# Altium integrated library Linear Technology Power Management LDO Linear Regulators.IntLib: 2339 symbols (part 52 of 131)
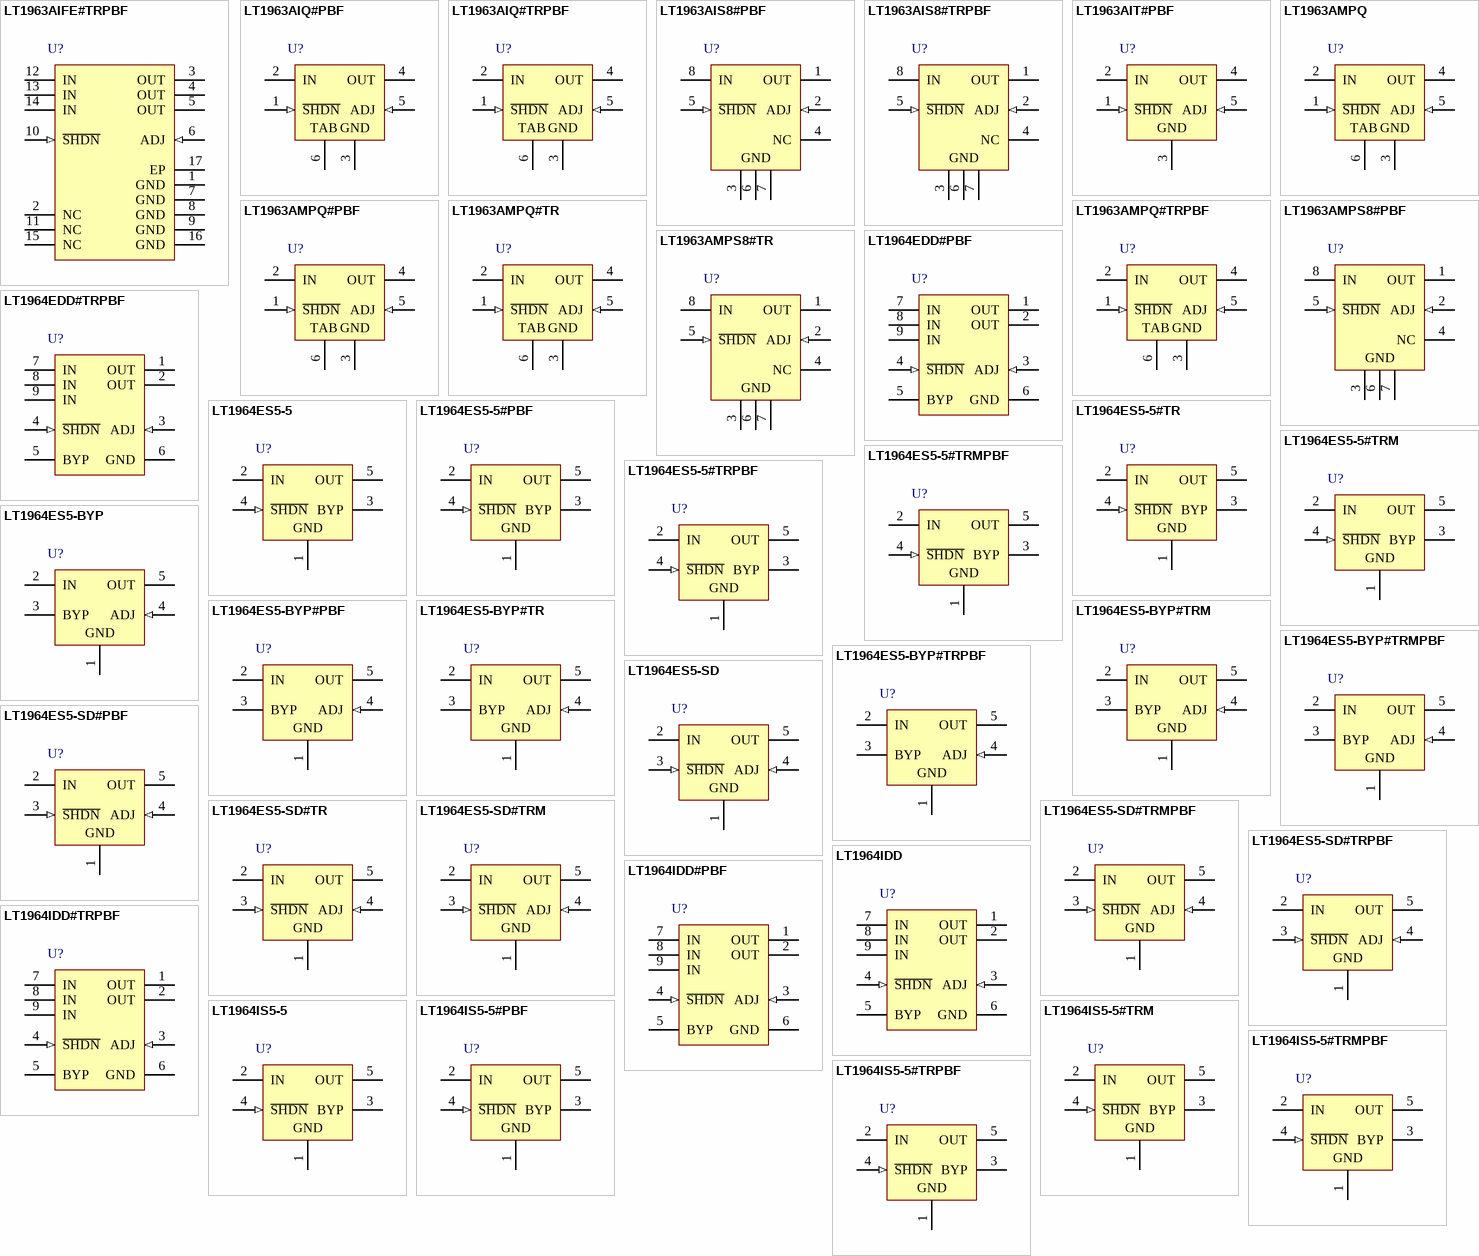
[diagram p120: symbols LT1963AIFE#TRPBF to LT1964IS5-5#TRPBF]

## LT1964ES5-5#TRMPBF
designator U?
200 mA, Low Noise, Low Dropout Negative Micropower Regulator, -1.9 to -20 V Vin, -5 V Vout, 5-pin SOT23 (S5-5), -40 to 125 degC, Pb-Free, Mini Tape and Reel; Manufacturer: Linear Technology; PartNumber: LT1964ES5-5#TRMPBF; Discrete Pass Element: no; Dropout Voltage(V): 0.34; Iout(mA): 200; Isupply(mA): 0.03; Noise(uV): 30; Number of Outputs: 1; Output Voltage: -5 V; PSRR(dB): 54; Shutdown Current(uA): 3; DatasheetVersion: Rev. B; PackageVersion: Jun-10; PackageReference: S5-5; PackageDescription: 5-Pin Plastic TSOT-23, Body 1.63 x 2.90 mm, Pitch 0.95 mm; Supplier 1: Digi-Key; Supplier Part Number 1: LT1964ES5-5#TRMPBFTR-ND; Supplier 2: Digi-Key; Supplier Part Number 2: LT1964ES5-5#TRMPBFCT-ND; Supplier 3: Digi-Key; Supplier Part Number 3: LT1964ES5-5#TRMPBFDKR-ND; Supplier 4: Farnell; Supplier Part Number 4: 1663814RL; Supplier 5: Farnell; Supplier Part Number 5: 1663814; Supplier 6: Newark; Supplier Part Number 6: 59M8319; Supplier 7: Newark; Supplier Part Number 7: 57M7590; Packing: Mini Tape and Reel; RoHS: TRUE; Vin Max(V): -1.9; Vin Min(V): -20; Mounting Technology: Surface Mount; Code_JEDEC: MO-193; ComponentLink1Description: Manufacturer URL; ComponentLink1URL: http://www.linear.com/; ComponentLink2Description: Datasheet; ComponentLink2URL: http://cds.linear.com/docs/en/datasheet/1964fb.pdf; ComponentLink3Description: Package Specification; ComponentLink3URL: http://cds.linear.com/docs/en/packaging/SOT_5_05-08-1635.pdf
footprint LT-S5-5-TSOT-23_N (SOT23, 5-Leads, Body 2.90x1.63mm, Pitch 0.95mm, IPC Medium Density)
footprint LT-S5-5-TSOT-23_L (SOT23, 5-Leads, Body 2.90x1.63mm, Pitch 0.95mm, IPC High Density)
footprint LT-S5-5-TSOT-23_M (SOT23, 5-Leads, Body 2.90x1.63mm, Pitch 0.95mm, IPC Low Density)
pins: 1 GND (power) "Ground.", 2 IN (power) "Power is Supplied to the Device Through the Input Pin. A bypass capacitor is required on this pin if the device is more than six inches away from the main input filter capacitor. In general, the output impedance of a battery (See Datasheet)", 3 BYP "The BYP Pin is used to Bypass the Reference of the LT1964 to Achieve Low Noise Performance from the Regulator. A small capacitor from the output to this pin will bypass the reference to lower the output voltage noise. A (See Datasheet)", 4 ~{SHDN} (in) "The S\H\D\N\ Pin is used to put the LT1964 into a Low Power Shutdown State. The S\H\D\N\ pin is referenced to the GND pin for regulator control, allowing the LT1964 to be driven by either positive or negative logic. The (See Datasheet)", 5 OUT (power) "The Output Supplies Power to the Load. A minimum output capacitor of 1uF is required to prevent oscillations. Larger output capacitors will be required for applications with large transient loads to limit peak voltage (See Datasheet)"

## LT1964ES5-5#TRPBF
designator U?
200 mA, Low Noise, Low Dropout Negative Micropower Regulator, -1.9 to -20 V Vin, -5 V Vout, 5-pin SOT23 (S5-5), -40 to 125 degC, Pb-Free, Tape and Reel; Manufacturer: Linear Technology; PartNumber: LT1964ES5-5#TRPBF; Discrete Pass Element: no; Dropout Voltage(V): 0.34; Iout(mA): 200; Isupply(mA): 0.03; Noise(uV): 30; Number of Outputs: 1; Output Voltage: -5 V; PSRR(dB): 54; Shutdown Current(uA): 3; DatasheetVersion: Rev. B; PackageVersion: Jun-10; PackageReference: S5-5; PackageDescription: 5-Pin Plastic TSOT-23, Body 1.63 x 2.90 mm, Pitch 0.95 mm; Supplier 1: Digi-Key; Supplier Part Number 1: LT1964ES5-5#TRPBF-ND; Supplier 2: Newark; Supplier Part Number 2: 57M7591; Packing: Tape and Reel; RoHS: TRUE; Vin Max(V): -1.9; Vin Min(V): -20; Mounting Technology: Surface Mount; Code_JEDEC: MO-193; ComponentLink1Description: Manufacturer URL; ComponentLink1URL: http://www.linear.com/; ComponentLink2Description: Datasheet; ComponentLink2URL: http://cds.linear.com/docs/en/datasheet/1964fb.pdf; ComponentLink3Description: Package Specification; ComponentLink3URL: http://cds.linear.com/docs/en/packaging/SOT_5_05-08-1635.pdf
footprint LT-S5-5-TSOT-23_N (SOT23, 5-Leads, Body 2.90x1.63mm, Pitch 0.95mm, IPC Medium Density)
footprint LT-S5-5-TSOT-23_L (SOT23, 5-Leads, Body 2.90x1.63mm, Pitch 0.95mm, IPC High Density)
footprint LT-S5-5-TSOT-23_M (SOT23, 5-Leads, Body 2.90x1.63mm, Pitch 0.95mm, IPC Low Density)
pins: 1 GND (power) "Ground.", 2 IN (power) "Power is Supplied to the Device Through the Input Pin. A bypass capacitor is required on this pin if the device is more than six inches away from the main input filter capacitor. In general, the output impedance of a battery (See Datasheet)", 3 BYP "The BYP Pin is used to Bypass the Reference of the LT1964 to Achieve Low Noise Performance from the Regulator. A small capacitor from the output to this pin will bypass the reference to lower the output voltage noise. A (See Datasheet)", 4 ~{SHDN} (in) "The S\H\D\N\ Pin is used to put the LT1964 into a Low Power Shutdown State. The S\H\D\N\ pin is referenced to the GND pin for regulator control, allowing the LT1964 to be driven by either positive or negative logic. The (See Datasheet)", 5 OUT (power) "The Output Supplies Power to the Load. A minimum output capacitor of 1uF is required to prevent oscillations. Larger output capacitors will be required for applications with large transient loads to limit peak voltage (See Datasheet)"

## LT1964ES5-BYP
designator U?
200 mA, Low Noise, Low Dropout Negative Micropower Regulator, -1.9 to -20 V Vin, Adjustable Vout, 5-pin SOT23 (S5-5), -40 to 125 degC; Manufacturer: Linear Technology; PartNumber: LT1964ES5-BYP; Discrete Pass Element: no; Dropout Voltage(V): 0.34; Iout(mA): 200; Isupply(mA): 0.03; Noise(uV): 30; Number of Outputs: 1; Output Voltage: Adj; PSRR(dB): 54; Shutdown Current(uA): 3; DatasheetVersion: Rev. B; PackageVersion: Jun-10; PackageReference: S5-5; PackageDescription: 5-Pin Plastic TSOT-23, Body 1.63 x 2.90 mm, Pitch 0.95 mm; RoHS: FALSE; Vin Max(V): -1.9; Vin Min(V): -20; Mounting Technology: Surface Mount; Code_JEDEC: MO-193; ComponentLink1Description: Manufacturer URL; ComponentLink1URL: http://www.linear.com/; ComponentLink2Description: Datasheet; ComponentLink2URL: http://cds.linear.com/docs/en/datasheet/1964fb.pdf; ComponentLink3Description: Package Specification; ComponentLink3URL: http://cds.linear.com/docs/en/packaging/SOT_5_05-08-1635.pdf
footprint LT-S5-5-TSOT-23_N (SOT23, 5-Leads, Body 2.90x1.63mm, Pitch 0.95mm, IPC Medium Density)
footprint LT-S5-5-TSOT-23_L (SOT23, 5-Leads, Body 2.90x1.63mm, Pitch 0.95mm, IPC High Density)
footprint LT-S5-5-TSOT-23_M (SOT23, 5-Leads, Body 2.90x1.63mm, Pitch 0.95mm, IPC Low Density)
pins: 1 GND (power) "Ground.", 2 IN (power) "Power is Supplied to the Device Through the Input Pin. A bypass capacitor is required on this pin if the device is more than six inches away from the main input filter capacitor. In general, the output impedance of a battery (See Datasheet)", 3 BYP "The BYP Pin is used to Bypass the Reference of the LT1964 to Achieve Low Noise Performance from the Regulator. A small capacitor from the output to this pin will bypass the reference to lower the output voltage noise. A (See Datasheet)", 4 ADJ (in) "For the Adjustable LT1964, this is the Input to the Error Amplifier. The ADJ pin has a bias current of 30nA that flows out of the pin. The ADJ pin voltage is -1.22V referenced to ground, and the output voltage range is -1.(See Datasheet)", 5 OUT (power) "The Output Supplies Power to the Load. A minimum output capacitor of 1uF is required to prevent oscillations. Larger output capacitors will be required for applications with large transient loads to limit peak voltage (See Datasheet)"

## LT1964ES5-BYP#PBF
designator U?
200 mA, Low Noise, Low Dropout Negative Micropower Regulator, -1.9 to -20 V Vin, Adjustable Vout, 5-pin SOT23 (S5-5), -40 to 125 degC, Pb-Free; Manufacturer: Linear Technology; PartNumber: LT1964ES5-BYP#PBF; Discrete Pass Element: no; Dropout Voltage(V): 0.34; Iout(mA): 200; Isupply(mA): 0.03; Noise(uV): 30; Number of Outputs: 1; Output Voltage: Adj; PSRR(dB): 54; Shutdown Current(uA): 3; DatasheetVersion: Rev. B; PackageVersion: Jun-10; PackageReference: S5-5; PackageDescription: 5-Pin Plastic TSOT-23, Body 1.63 x 2.90 mm, Pitch 0.95 mm; Supplier 1: Newark; Supplier Part Number 1: 05R9561; RoHS: TRUE; Vin Max(V): -1.9; Vin Min(V): -20; Mounting Technology: Surface Mount; Code_JEDEC: MO-193; ComponentLink1Description: Manufacturer URL; ComponentLink1URL: http://www.linear.com/; ComponentLink2Description: Datasheet; ComponentLink2URL: http://cds.linear.com/docs/en/datasheet/1964fb.pdf; ComponentLink3Description: Package Specification; ComponentLink3URL: http://cds.linear.com/docs/en/packaging/SOT_5_05-08-1635.pdf
footprint LT-S5-5-TSOT-23_N (SOT23, 5-Leads, Body 2.90x1.63mm, Pitch 0.95mm, IPC Medium Density)
footprint LT-S5-5-TSOT-23_L (SOT23, 5-Leads, Body 2.90x1.63mm, Pitch 0.95mm, IPC High Density)
footprint LT-S5-5-TSOT-23_M (SOT23, 5-Leads, Body 2.90x1.63mm, Pitch 0.95mm, IPC Low Density)
pins: 1 GND (power) "Ground.", 2 IN (power) "Power is Supplied to the Device Through the Input Pin. A bypass capacitor is required on this pin if the device is more than six inches away from the main input filter capacitor. In general, the output impedance of a battery (See Datasheet)", 3 BYP "The BYP Pin is used to Bypass the Reference of the LT1964 to Achieve Low Noise Performance from the Regulator. A small capacitor from the output to this pin will bypass the reference to lower the output voltage noise. A (See Datasheet)", 4 ADJ (in) "For the Adjustable LT1964, this is the Input to the Error Amplifier. The ADJ pin has a bias current of 30nA that flows out of the pin. The ADJ pin voltage is -1.22V referenced to ground, and the output voltage range is -1.(See Datasheet)", 5 OUT (power) "The Output Supplies Power to the Load. A minimum output capacitor of 1uF is required to prevent oscillations. Larger output capacitors will be required for applications with large transient loads to limit peak voltage (See Datasheet)"

## LT1964ES5-BYP#TR
designator U?
200 mA, Low Noise, Low Dropout Negative Micropower Regulator, -1.9 to -20 V Vin, Adjustable Vout, 5-pin SOT23 (S5-5), -40 to 125 degC, Tape and Reel; Manufacturer: Linear Technology; PartNumber: LT1964ES5-BYP#TR; Discrete Pass Element: no; Dropout Voltage(V): 0.34; Iout(mA): 200; Isupply(mA): 0.03; Noise(uV): 30; Number of Outputs: 1; Output Voltage: Adj; PSRR(dB): 54; Shutdown Current(uA): 3; DatasheetVersion: Rev. B; PackageVersion: Jun-10; PackageReference: S5-5; PackageDescription: 5-Pin Plastic TSOT-23, Body 1.63 x 2.90 mm, Pitch 0.95 mm; Supplier 1: Digi-Key; Supplier Part Number 1: LT1964ES5-BYPTR-ND; Supplier 2: Newark; Supplier Part Number 2: 57M7581; Packing: Tape and Reel; RoHS: FALSE; Vin Max(V): -1.9; Vin Min(V): -20; Mounting Technology: Surface Mount; Code_JEDEC: MO-193; ComponentLink1Description: Manufacturer URL; ComponentLink1URL: http://www.linear.com/; ComponentLink2Description: Datasheet; ComponentLink2URL: http://cds.linear.com/docs/en/datasheet/1964fb.pdf; ComponentLink3Description: Package Specification; ComponentLink3URL: http://cds.linear.com/docs/en/packaging/SOT_5_05-08-1635.pdf
footprint LT-S5-5-TSOT-23_N (SOT23, 5-Leads, Body 2.90x1.63mm, Pitch 0.95mm, IPC Medium Density)
footprint LT-S5-5-TSOT-23_L (SOT23, 5-Leads, Body 2.90x1.63mm, Pitch 0.95mm, IPC High Density)
footprint LT-S5-5-TSOT-23_M (SOT23, 5-Leads, Body 2.90x1.63mm, Pitch 0.95mm, IPC Low Density)
pins: 1 GND (power) "Ground.", 2 IN (power) "Power is Supplied to the Device Through the Input Pin. A bypass capacitor is required on this pin if the device is more than six inches away from the main input filter capacitor. In general, the output impedance of a battery (See Datasheet)", 3 BYP "The BYP Pin is used to Bypass the Reference of the LT1964 to Achieve Low Noise Performance from the Regulator. A small capacitor from the output to this pin will bypass the reference to lower the output voltage noise. A (See Datasheet)", 4 ADJ (in) "For the Adjustable LT1964, this is the Input to the Error Amplifier. The ADJ pin has a bias current of 30nA that flows out of the pin. The ADJ pin voltage is -1.22V referenced to ground, and the output voltage range is -1.(See Datasheet)", 5 OUT (power) "The Output Supplies Power to the Load. A minimum output capacitor of 1uF is required to prevent oscillations. Larger output capacitors will be required for applications with large transient loads to limit peak voltage (See Datasheet)"

## LT1964ES5-BYP#TRM
designator U?
200 mA, Low Noise, Low Dropout Negative Micropower Regulator, -1.9 to -20 V Vin, Adjustable Vout, 5-pin SOT23 (S5-5), -40 to 125 degC, Mini Tape and Reel; Manufacturer: Linear Technology; PartNumber: LT1964ES5-BYP#TRM; Discrete Pass Element: no; Dropout Voltage(V): 0.34; Iout(mA): 200; Isupply(mA): 0.03; Noise(uV): 30; Number of Outputs: 1; Output Voltage: Adj; PSRR(dB): 54; Shutdown Current(uA): 3; Vout Max(V): -1.22; DatasheetVersion: Rev. B; PackageVersion: Jun-10; PackageReference: S5-5; PackageDescription: 5-Pin Plastic TSOT-23, Body 1.63 x 2.90 mm, Pitch 0.95 mm; Supplier 1: Digi-Key; Supplier Part Number 1: LT1964ES5-BYP#TRMTR-ND; Supplier 2: Digi-Key; Supplier Part Number 2: LT1964ES5-BYP#TRMCT-ND; Supplier 3: Digi-Key; Supplier Part Number 3: LT1964ES5-BYP#TRMDKR-ND; Supplier 4: Newark; Supplier Part Number 4: 75M4673; Packing: Mini Tape and Reel; RoHS: FALSE; Vin Max(V): -1.9; Vin Min(V): -20; Vout Min(V): -20; Mounting Technology: Surface Mount; Code_JEDEC: MO-193; ComponentLink1Description: Manufacturer URL; ComponentLink1URL: http://www.linear.com/; ComponentLink2Description: Datasheet; ComponentLink2URL: http://cds.linear.com/docs/en/datasheet/1964fb.pdf; ComponentLink3Description: Package Specification; ComponentLink3URL: http://cds.linear.com/docs/en/packaging/SOT_5_05-08-1635.pdf
footprint LT-S5-5-TSOT-23_N (SOT23, 5-Leads, Body 2.90x1.63mm, Pitch 0.95mm, IPC Medium Density)
footprint LT-S5-5-TSOT-23_L (SOT23, 5-Leads, Body 2.90x1.63mm, Pitch 0.95mm, IPC High Density)
footprint LT-S5-5-TSOT-23_M (SOT23, 5-Leads, Body 2.90x1.63mm, Pitch 0.95mm, IPC Low Density)
pins: 1 GND (power) "Ground.", 2 IN (power) "Power is Supplied to the Device Through the Input Pin. A bypass capacitor is required on this pin if the device is more than six inches away from the main input filter capacitor. In general, the output impedance of a battery (See Datasheet)", 3 BYP "The BYP Pin is used to Bypass the Reference of the LT1964 to Achieve Low Noise Performance from the Regulator. A small capacitor from the output to this pin will bypass the reference to lower the output voltage noise. A (See Datasheet)", 4 ADJ (in) "For the Adjustable LT1964, this is the Input to the Error Amplifier. The ADJ pin has a bias current of 30nA that flows out of the pin. The ADJ pin voltage is -1.22V referenced to ground, and the output voltage range is -1.(See Datasheet)", 5 OUT (power) "The Output Supplies Power to the Load. A minimum output capacitor of 1uF is required to prevent oscillations. Larger output capacitors will be required for applications with large transient loads to limit peak voltage (See Datasheet)"

## LT1964ES5-BYP#TRMPBF
designator U?
200 mA, Low Noise, Low Dropout Negative Micropower Regulator, -1.9 to -20 V Vin, Adjustable Vout, 5-pin SOT23 (S5-5), -40 to 125 degC, Pb-Free, Mini Tape and Reel; Manufacturer: Linear Technology; PartNumber: LT1964ES5-BYP#TRMPBF; Discrete Pass Element: no; Dropout Voltage(V): 0.34; Iout(mA): 200; Isupply(mA): 0.03; Noise(uV): 30; Number of Outputs: 1; Output Voltage: Adj; PSRR(dB): 54; Shutdown Current(uA): 3; Vout Max(V): -1.22; DatasheetVersion: Rev. B; PackageVersion: Jun-10; PackageReference: S5-5; PackageDescription: 5-Pin Plastic TSOT-23, Body 1.63 x 2.90 mm, Pitch 0.95 mm; Supplier 1: Digi-Key; Supplier Part Number 1: LT1964ES5-BYP#TRMPBFTR-ND; Supplier 2: Digi-Key; Supplier Part Number 2: LT1964ES5-BYP#TRMPBFCT-ND; Supplier 3: Digi-Key; Supplier Part Number 3: LT1964ES5-BYP#TRMPBFDKR-ND; Supplier 4: Farnell; Supplier Part Number 4: 1663815; Supplier 5: Farnell; Supplier Part Number 5: 1663815RL; Supplier 6: Newark; Supplier Part Number 6: 57M7582; Packing: Mini Tape and Reel; RoHS: TRUE; Vin Max(V): -1.9; Vin Min(V): -20; Vout Min(V): -20; Mounting Technology: Surface Mount; Code_JEDEC: MO-193; ComponentLink1Description: Manufacturer URL; ComponentLink1URL: http://www.linear.com/; ComponentLink2Description: Datasheet; ComponentLink2URL: http://cds.linear.com/docs/en/datasheet/1964fb.pdf; ComponentLink3Description: Package Specification; ComponentLink3URL: http://cds.linear.com/docs/en/packaging/SOT_5_05-08-1635.pdf
footprint LT-S5-5-TSOT-23_N (SOT23, 5-Leads, Body 2.90x1.63mm, Pitch 0.95mm, IPC Medium Density)
footprint LT-S5-5-TSOT-23_L (SOT23, 5-Leads, Body 2.90x1.63mm, Pitch 0.95mm, IPC High Density)
footprint LT-S5-5-TSOT-23_M (SOT23, 5-Leads, Body 2.90x1.63mm, Pitch 0.95mm, IPC Low Density)
pins: 1 GND (power) "Ground.", 2 IN (power) "Power is Supplied to the Device Through the Input Pin. A bypass capacitor is required on this pin if the device is more than six inches away from the main input filter capacitor. In general, the output impedance of a battery (See Datasheet)", 3 BYP "The BYP Pin is used to Bypass the Reference of the LT1964 to Achieve Low Noise Performance from the Regulator. A small capacitor from the output to this pin will bypass the reference to lower the output voltage noise. A (See Datasheet)", 4 ADJ (in) "For the Adjustable LT1964, this is the Input to the Error Amplifier. The ADJ pin has a bias current of 30nA that flows out of the pin. The ADJ pin voltage is -1.22V referenced to ground, and the output voltage range is -1.(See Datasheet)", 5 OUT (power) "The Output Supplies Power to the Load. A minimum output capacitor of 1uF is required to prevent oscillations. Larger output capacitors will be required for applications with large transient loads to limit peak voltage (See Datasheet)"

## LT1964ES5-BYP#TRPBF
designator U?
200 mA, Low Noise, Low Dropout Negative Micropower Regulator, -1.9 to -20 V Vin, Adjustable Vout, 5-pin SOT23 (S5-5), -40 to 125 degC, Pb-Free, Tape and Reel; Manufacturer: Linear Technology; PartNumber: LT1964ES5-BYP#TRPBF; Discrete Pass Element: no; Dropout Voltage(V): 0.34; Iout(mA): 200; Isupply(mA): 0.03; Noise(uV): 30; Number of Outputs: 1; Output Voltage: Adj; PSRR(dB): 54; Shutdown Current(uA): 3; DatasheetVersion: Rev. B; PackageVersion: Jun-10; PackageReference: S5-5; PackageDescription: 5-Pin Plastic TSOT-23, Body 1.63 x 2.90 mm, Pitch 0.95 mm; Supplier 1: Digi-Key; Supplier Part Number 1: LT1964ES5-BYP#TRPBF-ND; Supplier 2: Newark; Supplier Part Number 2: 57M7583; Packing: Tape and Reel; RoHS: TRUE; Vin Max(V): -1.9; Vin Min(V): -20; Mounting Technology: Surface Mount; Code_JEDEC: MO-193; ComponentLink1Description: Manufacturer URL; ComponentLink1URL: http://www.linear.com/; ComponentLink2Description: Datasheet; ComponentLink2URL: http://cds.linear.com/docs/en/datasheet/1964fb.pdf; ComponentLink3Description: Package Specification; ComponentLink3URL: http://cds.linear.com/docs/en/packaging/SOT_5_05-08-1635.pdf
footprint LT-S5-5-TSOT-23_N (SOT23, 5-Leads, Body 2.90x1.63mm, Pitch 0.95mm, IPC Medium Density)
footprint LT-S5-5-TSOT-23_L (SOT23, 5-Leads, Body 2.90x1.63mm, Pitch 0.95mm, IPC High Density)
footprint LT-S5-5-TSOT-23_M (SOT23, 5-Leads, Body 2.90x1.63mm, Pitch 0.95mm, IPC Low Density)
pins: 1 GND (power) "Ground.", 2 IN (power) "Power is Supplied to the Device Through the Input Pin. A bypass capacitor is required on this pin if the device is more than six inches away from the main input filter capacitor. In general, the output impedance of a battery (See Datasheet)", 3 BYP "The BYP Pin is used to Bypass the Reference of the LT1964 to Achieve Low Noise Performance from the Regulator. A small capacitor from the output to this pin will bypass the reference to lower the output voltage noise. A (See Datasheet)", 4 ADJ (in) "For the Adjustable LT1964, this is the Input to the Error Amplifier. The ADJ pin has a bias current of 30nA that flows out of the pin. The ADJ pin voltage is -1.22V referenced to ground, and the output voltage range is -1.(See Datasheet)", 5 OUT (power) "The Output Supplies Power to the Load. A minimum output capacitor of 1uF is required to prevent oscillations. Larger output capacitors will be required for applications with large transient loads to limit peak voltage (See Datasheet)"

## LT1964ES5-SD
designator U?
200 mA, Low Noise, Low Dropout Negative Micropower Regulator, -1.9 to -20 V Vin, Adjustable Vout, 5-pin SOT23 (S5-5), -40 to 125 degC; Manufacturer: Linear Technology; PartNumber: LT1964ES5-SD; Discrete Pass Element: no; Dropout Voltage(V): 0.34; Iout(mA): 200; Isupply(mA): 0.03; Noise(uV): 30; Number of Outputs: 1; Output Voltage: Adj; PSRR(dB): 54; Shutdown Current(uA): 3; DatasheetVersion: Rev. B; PackageVersion: Jun-10; PackageReference: S5-5; PackageDescription: 5-Pin Plastic TSOT-23, Body 1.63 x 2.90 mm, Pitch 0.95 mm; Supplier 1: Newark; Supplier Part Number 1: 68W9967; RoHS: FALSE; Vin Max(V): -1.9; Vin Min(V): -20; Mounting Technology: Surface Mount; Code_JEDEC: MO-193; ComponentLink1Description: Manufacturer URL; ComponentLink1URL: http://www.linear.com/; ComponentLink2Description: Datasheet; ComponentLink2URL: http://cds.linear.com/docs/en/datasheet/1964fb.pdf; ComponentLink3Description: Package Specification; ComponentLink3URL: http://cds.linear.com/docs/en/packaging/SOT_5_05-08-1635.pdf
footprint LT-S5-5-TSOT-23_N (SOT23, 5-Leads, Body 2.90x1.63mm, Pitch 0.95mm, IPC Medium Density)
footprint LT-S5-5-TSOT-23_L (SOT23, 5-Leads, Body 2.90x1.63mm, Pitch 0.95mm, IPC High Density)
footprint LT-S5-5-TSOT-23_M (SOT23, 5-Leads, Body 2.90x1.63mm, Pitch 0.95mm, IPC Low Density)
pins: 1 GND (power) "Ground.", 2 IN (power) "Power is Supplied to the Device Through the Input Pin. A bypass capacitor is required on this pin if the device is more than six inches away from the main input filter capacitor. In general, the output impedance of a battery (See Datasheet)", 3 ~{SHDN} (in) "The S\H\D\N\ Pin is used to put the LT1964 into a Low Power Shutdown State. The S\H\D\N\ pin is referenced to the GND pin for regulator control, allowing the LT1964 to be driven by either positive or negative logic. The (See Datasheet)", 4 ADJ (in) "For the Adjustable LT1964, this is the Input to the Error Amplifier. The ADJ pin has a bias current of 30nA that flows out of the pin. The ADJ pin voltage is -1.22V referenced to ground, and the output voltage range is -1.(See Datasheet)", 5 OUT (power) "The Output Supplies Power to the Load. A minimum output capacitor of 1uF is required to prevent oscillations. Larger output capacitors will be required for applications with large transient loads to limit peak voltage (See Datasheet)"

## LT1964ES5-SD#PBF
designator U?
200 mA, Low Noise, Low Dropout Negative Micropower Regulator, -1.6 to -20 V Vin, Adjustable Vout, 5-pin SOT23 (S5-5), -40 to 125 degC, Pb-Free; Manufacturer: Linear Technology; PartNumber: LT1964ES5-SD#PBF; Discrete Pass Element: no; Dropout Voltage(V): 0.34; Iout(mA): 200; Isupply(mA): 0.03; Noise(uV): 30; Number of Outputs: 1; Output Voltage: Adj; PSRR(dB): 54; Shutdown Current(uA): 3; Vout Max(V): -1.22; DatasheetVersion: Rev. B; PackageVersion: Jun-10; PackageReference: S5-5; PackageDescription: 5-Pin Plastic TSOT-23, Body 1.63 x 2.90 mm, Pitch 0.95 mm; Supplier 1: Farnell; Supplier Part Number 1: 2308192; Supplier 2: Newark; Supplier Part Number 2: 78T3771; RoHS: TRUE; Vin Max(V): -1.6; Vin Min(V): -20; Vout Min(V): -20; Mounting Technology: Surface Mount; Code_JEDEC: MO-193; ComponentLink1Description: Manufacturer URL; ComponentLink1URL: http://www.linear.com/; ComponentLink2Description: Datasheet; ComponentLink2URL: http://cds.linear.com/docs/en/datasheet/1964fb.pdf; ComponentLink3Description: Package Specification; ComponentLink3URL: http://cds.linear.com/docs/en/packaging/SOT_5_05-08-1635.pdf
footprint LT-S5-5-TSOT-23_N (SOT23, 5-Leads, Body 2.90x1.63mm, Pitch 0.95mm, IPC Medium Density)
footprint LT-S5-5-TSOT-23_L (SOT23, 5-Leads, Body 2.90x1.63mm, Pitch 0.95mm, IPC High Density)
footprint LT-S5-5-TSOT-23_M (SOT23, 5-Leads, Body 2.90x1.63mm, Pitch 0.95mm, IPC Low Density)
pins: 1 GND (power) "Ground.", 2 IN (power) "Power is Supplied to the Device Through the Input Pin. A bypass capacitor is required on this pin if the device is more than six inches away from the main input filter capacitor. In general, the output impedance of a battery (See Datasheet)", 3 ~{SHDN} (in) "The S\H\D\N\ Pin is used to put the LT1964 into a Low Power Shutdown State. The S\H\D\N\ pin is referenced to the GND pin for regulator control, allowing the LT1964 to be driven by either positive or negative logic. The (See Datasheet)", 4 ADJ (in) "For the Adjustable LT1964, this is the Input to the Error Amplifier. The ADJ pin has a bias current of 30nA that flows out of the pin. The ADJ pin voltage is -1.22V referenced to ground, and the output voltage range is -1.(See Datasheet)", 5 OUT (power) "The Output Supplies Power to the Load. A minimum output capacitor of 1uF is required to prevent oscillations. Larger output capacitors will be required for applications with large transient loads to limit peak voltage (See Datasheet)"

## LT1964ES5-SD#TR
designator U?
200 mA, Low Noise, Low Dropout Negative Micropower Regulator, -1.6 to -20 V Vin, Adjustable Vout, 5-pin SOT23 (S5-5), -40 to 125 degC, Tape and Reel; Manufacturer: Linear Technology; PartNumber: LT1964ES5-SD#TR; Discrete Pass Element: no; Dropout Voltage(V): 0.34; Iout(mA): 200; Isupply(mA): 0.03; Noise(uV): 30; Number of Outputs: 1; Output Voltage: Adj; PSRR(dB): 54; Shutdown Current(uA): 3; Vout Max(V): -1.22; DatasheetVersion: Rev. B; PackageVersion: Jun-10; PackageReference: S5-5; PackageDescription: 5-Pin Plastic TSOT-23, Body 1.63 x 2.90 mm, Pitch 0.95 mm; Supplier 1: Digi-Key; Supplier Part Number 1: LT1964ES5-SDTR-ND; Supplier 2: Newark; Supplier Part Number 2: 57M7584; Packing: Tape and Reel; RoHS: FALSE; Vin Max(V): -1.6; Vin Min(V): -20; Vout Min(V): -20; Mounting Technology: Surface Mount; Code_JEDEC: MO-193; ComponentLink1Description: Manufacturer URL; ComponentLink1URL: http://www.linear.com/; ComponentLink2Description: Datasheet; ComponentLink2URL: http://cds.linear.com/docs/en/datasheet/1964fb.pdf; ComponentLink3Description: Package Specification; ComponentLink3URL: http://cds.linear.com/docs/en/packaging/SOT_5_05-08-1635.pdf
footprint LT-S5-5-TSOT-23_N (SOT23, 5-Leads, Body 2.90x1.63mm, Pitch 0.95mm, IPC Medium Density)
footprint LT-S5-5-TSOT-23_L (SOT23, 5-Leads, Body 2.90x1.63mm, Pitch 0.95mm, IPC High Density)
footprint LT-S5-5-TSOT-23_M (SOT23, 5-Leads, Body 2.90x1.63mm, Pitch 0.95mm, IPC Low Density)
pins: 1 GND (power) "Ground.", 2 IN (power) "Power is Supplied to the Device Through the Input Pin. A bypass capacitor is required on this pin if the device is more than six inches away from the main input filter capacitor. In general, the output impedance of a battery (See Datasheet)", 3 ~{SHDN} (in) "The S\H\D\N\ Pin is used to put the LT1964 into a Low Power Shutdown State. The S\H\D\N\ pin is referenced to the GND pin for regulator control, allowing the LT1964 to be driven by either positive or negative logic. The (See Datasheet)", 4 ADJ (in) "For the Adjustable LT1964, this is the Input to the Error Amplifier. The ADJ pin has a bias current of 30nA that flows out of the pin. The ADJ pin voltage is -1.22V referenced to ground, and the output voltage range is -1.(See Datasheet)", 5 OUT (power) "The Output Supplies Power to the Load. A minimum output capacitor of 1uF is required to prevent oscillations. Larger output capacitors will be required for applications with large transient loads to limit peak voltage (See Datasheet)"

## LT1964ES5-SD#TRM
designator U?
200 mA, Low Noise, Low Dropout Negative Micropower Regulator, -1.9 to -20 V Vin, Adjustable Vout, 5-pin SOT23 (S5-5), -40 to 125 degC, Mini Tape and Reel; Manufacturer: Linear Technology; PartNumber: LT1964ES5-SD#TRM; Discrete Pass Element: no; Dropout Voltage(V): 0.34; Iout(mA): 200; Isupply(mA): 0.03; Noise(uV): 30; Number of Outputs: 1; Output Voltage: Adj; PSRR(dB): 54; Shutdown Current(uA): 3; DatasheetVersion: Rev. B; PackageVersion: Jun-10; PackageReference: S5-5; PackageDescription: 5-Pin Plastic TSOT-23, Body 1.63 x 2.90 mm, Pitch 0.95 mm; Supplier 1: Digi-Key; Supplier Part Number 1: LT1964ES5-SD#TRM-ND; Supplier 2: Newark; Supplier Part Number 2: 57M7585; Packing: Mini Tape and Reel; RoHS: FALSE; Vin Max(V): -1.9; Vin Min(V): -20; Mounting Technology: Surface Mount; Code_JEDEC: MO-193; ComponentLink1Description: Manufacturer URL; ComponentLink1URL: http://www.linear.com/; ComponentLink2Description: Datasheet; ComponentLink2URL: http://cds.linear.com/docs/en/datasheet/1964fb.pdf; ComponentLink3Description: Package Specification; ComponentLink3URL: http://cds.linear.com/docs/en/packaging/SOT_5_05-08-1635.pdf
footprint LT-S5-5-TSOT-23_N (SOT23, 5-Leads, Body 2.90x1.63mm, Pitch 0.95mm, IPC Medium Density)
footprint LT-S5-5-TSOT-23_L (SOT23, 5-Leads, Body 2.90x1.63mm, Pitch 0.95mm, IPC High Density)
footprint LT-S5-5-TSOT-23_M (SOT23, 5-Leads, Body 2.90x1.63mm, Pitch 0.95mm, IPC Low Density)
pins: 1 GND (power) "Ground.", 2 IN (power) "Power is Supplied to the Device Through the Input Pin. A bypass capacitor is required on this pin if the device is more than six inches away from the main input filter capacitor. In general, the output impedance of a battery (See Datasheet)", 3 ~{SHDN} (in) "The S\H\D\N\ Pin is used to put the LT1964 into a Low Power Shutdown State. The S\H\D\N\ pin is referenced to the GND pin for regulator control, allowing the LT1964 to be driven by either positive or negative logic. The (See Datasheet)", 4 ADJ (in) "For the Adjustable LT1964, this is the Input to the Error Amplifier. The ADJ pin has a bias current of 30nA that flows out of the pin. The ADJ pin voltage is -1.22V referenced to ground, and the output voltage range is -1.(See Datasheet)", 5 OUT (power) "The Output Supplies Power to the Load. A minimum output capacitor of 1uF is required to prevent oscillations. Larger output capacitors will be required for applications with large transient loads to limit peak voltage (See Datasheet)"

## LT1964ES5-SD#TRMPBF
designator U?
200 mA, Low Noise, Low Dropout Negative Micropower Regulator, -1.6 to -20 V Vin, Adjustable Vout, 5-pin SOT23 (S5-5), -40 to 125 degC, Pb-Free, Mini Tape and Reel; Manufacturer: Linear Technology; PartNumber: LT1964ES5-SD#TRMPBF; Discrete Pass Element: no; Dropout Voltage(V): 0.34; Iout(mA): 200; Isupply(mA): 0.03; Noise(uV): 30; Number of Outputs: 1; Output Voltage: Adj; PSRR(dB): 54; Shutdown Current(uA): 3; Vout Max(V): -1.22; DatasheetVersion: Rev. B; PackageVersion: Jun-10; PackageReference: S5-5; PackageDescription: 5-Pin Plastic TSOT-23, Body 1.63 x 2.90 mm, Pitch 0.95 mm; Supplier 1: Digi-Key; Supplier Part Number 1: LT1964ES5-SD#TRMPBFTR-ND; Supplier 2: Digi-Key; Supplier Part Number 2: LT1964ES5-SD#TRMPBFCT-ND; Supplier 3: Digi-Key; Supplier Part Number 3: LT1964ES5-SD#TRMPBFDKR-ND; Supplier 4: Farnell; Supplier Part Number 4: 1663816; Supplier 5: Farnell; Supplier Part Number 5: 1663816RL; Supplier 6: Newark; Supplier Part Number 6: 59M8318; Supplier 7: Newark; Supplier Part Number 7: 57M7586; Packing: Mini Tape and Reel; RoHS: TRUE; Vin Max(V): -1.6; Vin Min(V): -20; Vout Min(V): -20; Mounting Technology: Surface Mount; Code_JEDEC: MO-193; ComponentLink1Description: Manufacturer URL; ComponentLink1URL: http://www.linear.com/; ComponentLink2Description: Datasheet; ComponentLink2URL: http://cds.linear.com/docs/en/datasheet/1964fb.pdf; ComponentLink3Description: Package Specification; ComponentLink3URL: http://cds.linear.com/docs/en/packaging/SOT_5_05-08-1635.pdf
footprint LT-S5-5-TSOT-23_N (SOT23, 5-Leads, Body 2.90x1.63mm, Pitch 0.95mm, IPC Medium Density)
footprint LT-S5-5-TSOT-23_L (SOT23, 5-Leads, Body 2.90x1.63mm, Pitch 0.95mm, IPC High Density)
footprint LT-S5-5-TSOT-23_M (SOT23, 5-Leads, Body 2.90x1.63mm, Pitch 0.95mm, IPC Low Density)
pins: 1 GND (power) "Ground.", 2 IN (power) "Power is Supplied to the Device Through the Input Pin. A bypass capacitor is required on this pin if the device is more than six inches away from the main input filter capacitor. In general, the output impedance of a battery (See Datasheet)", 3 ~{SHDN} (in) "The S\H\D\N\ Pin is used to put the LT1964 into a Low Power Shutdown State. The S\H\D\N\ pin is referenced to the GND pin for regulator control, allowing the LT1964 to be driven by either positive or negative logic. The (See Datasheet)", 4 ADJ (in) "For the Adjustable LT1964, this is the Input to the Error Amplifier. The ADJ pin has a bias current of 30nA that flows out of the pin. The ADJ pin voltage is -1.22V referenced to ground, and the output voltage range is -1.(See Datasheet)", 5 OUT (power) "The Output Supplies Power to the Load. A minimum output capacitor of 1uF is required to prevent oscillations. Larger output capacitors will be required for applications with large transient loads to limit peak voltage (See Datasheet)"

## LT1964ES5-SD#TRPBF
designator U?
200 mA, Low Noise, Low Dropout Negative Micropower Regulator, -1.9 to -20 V Vin, Adjustable Vout, 5-pin SOT23 (S5-5), -40 to 125 degC, Pb-Free, Tape and Reel; Manufacturer: Linear Technology; PartNumber: LT1964ES5-SD#TRPBF; Discrete Pass Element: no; Dropout Voltage(V): 0.34; Iout(mA): 200; Isupply(mA): 0.03; Noise(uV): 30; Number of Outputs: 1; Output Voltage: Adj; PSRR(dB): 54; Shutdown Current(uA): 3; DatasheetVersion: Rev. B; PackageVersion: Jun-10; PackageReference: S5-5; PackageDescription: 5-Pin Plastic TSOT-23, Body 1.63 x 2.90 mm, Pitch 0.95 mm; Supplier 1: Digi-Key; Supplier Part Number 1: LT1964ES5-SD#TRPBF-ND; Supplier 2: Newark; Supplier Part Number 2: 57M7587; Packing: Tape and Reel; RoHS: TRUE; Vin Max(V): -1.9; Vin Min(V): -20; Mounting Technology: Surface Mount; Code_JEDEC: MO-193; ComponentLink1Description: Manufacturer URL; ComponentLink1URL: http://www.linear.com/; ComponentLink2Description: Datasheet; ComponentLink2URL: http://cds.linear.com/docs/en/datasheet/1964fb.pdf; ComponentLink3Description: Package Specification; ComponentLink3URL: http://cds.linear.com/docs/en/packaging/SOT_5_05-08-1635.pdf
footprint LT-S5-5-TSOT-23_N (SOT23, 5-Leads, Body 2.90x1.63mm, Pitch 0.95mm, IPC Medium Density)
footprint LT-S5-5-TSOT-23_L (SOT23, 5-Leads, Body 2.90x1.63mm, Pitch 0.95mm, IPC High Density)
footprint LT-S5-5-TSOT-23_M (SOT23, 5-Leads, Body 2.90x1.63mm, Pitch 0.95mm, IPC Low Density)
pins: 1 GND (power) "Ground.", 2 IN (power) "Power is Supplied to the Device Through the Input Pin. A bypass capacitor is required on this pin if the device is more than six inches away from the main input filter capacitor. In general, the output impedance of a battery (See Datasheet)", 3 ~{SHDN} (in) "The S\H\D\N\ Pin is used to put the LT1964 into a Low Power Shutdown State. The S\H\D\N\ pin is referenced to the GND pin for regulator control, allowing the LT1964 to be driven by either positive or negative logic. The (See Datasheet)", 4 ADJ (in) "For the Adjustable LT1964, this is the Input to the Error Amplifier. The ADJ pin has a bias current of 30nA that flows out of the pin. The ADJ pin voltage is -1.22V referenced to ground, and the output voltage range is -1.(See Datasheet)", 5 OUT (power) "The Output Supplies Power to the Load. A minimum output capacitor of 1uF is required to prevent oscillations. Larger output capacitors will be required for applications with large transient loads to limit peak voltage (See Datasheet)"

## LT1964IDD
designator U?
200 mA, Low Noise, Low Dropout Negative Micropower Regulator, -1.9 to -20 V Vin, Adjustable Vout, 8-pin SON (DD-8), -40 to 125 degC; Manufacturer: Linear Technology; PartNumber: LT1964IDD; Discrete Pass Element: no; Dropout Voltage(V): 0.34; Iout(mA): 200; Isupply(mA): 0.03; Noise(uV): 30; Number of Outputs: 1; Output Voltage: Adj; PSRR(dB): 54; Shutdown Current(uA): 3; Vout Max(V): -1.22; DatasheetVersion: Rev. B; PackageVersion: Jun-10; PackageReference: DD-8; PackageDescription: 8-Pin Plastic DFN, Body 3 x 3 mm, Pitch 0.5 mm; RoHS: FALSE; Vin Max(V): -1.9; Vin Min(V): -20; Vout Min(V): -20; Mounting Technology: Surface Mount; Code_JEDEC: MO-229; ComponentLink1Description: Manufacturer URL; ComponentLink1URL: http://www.linear.com/; ComponentLink2Description: Datasheet; ComponentLink2URL: http://cds.linear.com/docs/en/datasheet/1964fb.pdf; ComponentLink3Description: Package Specification; ComponentLink3URL: http://cds.linear.com/docs/en/packaging/DFN_8_05-08-1698.pdf
footprint LT-DD-8_V (SON, 8-Leads, Body 3x3mm, Pitch 0.5mm, Thermal Pad 1.65x2.38 mm, IPC Low Density)
pins: 1 OUT (power) "The Output Supplies Power to the Load. A minimum output capacitor of 1uF is required to prevent oscillations. Larger output capacitors will be required for applications with large transient loads to limit peak voltage (See Datasheet)", 2 OUT (power) "The Output Supplies Power to the Load. A minimum output capacitor of 1uF is required to prevent oscillations. Larger output capacitors will be required for applications with large transient loads to limit peak voltage (See Datasheet)", 3 ADJ (in) "For the Adjustable LT1964,  this is the Input to the Error Ampli?er. The ADJ pin has a bias current of 30nA that ?ows out of the pin. The ADJ pin voltage is -1.22V referenced to ground, and the output voltage range is(See Datasheet)", 4 ~{SHDN} (in) "The S\H\D\N\ Pin is used to put the LT1964 into a Low Power Shutdown State. The S\H\D\N\ pin is referenced to the GND pin for regulator control, allowing the LT1964 to  be driven by either positive or negative logic. The (See Datasheet)", 5 BYP "The BYP Pin is used to Bypass the Reference of  the LT1964 to Achieve Low Noise Performance from the  Regulator. A small capacitor from the output to this pin  will bypass the reference to lower the output voltage noise.  A (See Datasheet)", 6 GND (power) "Ground.", 7 IN (power) "Power is Supplied to the Device Through the Input Pin. A bypass capacitor is required on this pin if the device  is more than six inches away from the main input ?lter  capacitor. In general, the output impedance of (See Datasheet)", 8 IN (power) "Power is Supplied to the Device Through the Input Pin. A bypass capacitor is required on this pin if the device  is more than six inches away from the main input ?lter  capacitor. In general, the output impedance of (See Datasheet)", 9 IN (power) "IN. Connect to IN  (Pins 7, 8) at the PCB."

## LT1964IDD#PBF
designator U?
200 mA, Low Noise, Low Dropout Negative Micropower Regulator, -1.9 to -20 V Vin, Adjustable Vout, 8-pin SON (DD-8), -40 to 125 degC, Pb-Free; Manufacturer: Linear Technology; PartNumber: LT1964IDD#PBF; Discrete Pass Element: no; Dropout Voltage(V): 0.34; Iout(mA): 200; Isupply(mA): 0.03; Noise(uV): 30; Number of Outputs: 1; Output Voltage: Adj; PSRR(dB): 54; Shutdown Current(uA): 3; DatasheetVersion: Rev. B; PackageVersion: Jun-10; PackageReference: DD-8; PackageDescription: 8-Pin Plastic DFN, Body 3 x 3 mm, Pitch 0.5 mm; Supplier 1: Digi-Key; Supplier Part Number 1: LT1964IDD#PBF-ND; Supplier 2: Farnell; Supplier Part Number 2: 2295225; Supplier 3: Newark; Supplier Part Number 3: 02P7647; RoHS: TRUE; Vin Max(V): -1.9; Vin Min(V): -20; Mounting Technology: Surface Mount; Code_JEDEC: MO-229; ComponentLink1Description: Manufacturer URL; ComponentLink1URL: http://www.linear.com/; ComponentLink2Description: Datasheet; ComponentLink2URL: http://cds.linear.com/docs/en/datasheet/1964fb.pdf; ComponentLink3Description: Package Specification; ComponentLink3URL: http://cds.linear.com/docs/en/packaging/DFN_8_05-08-1698.pdf
footprint LT-DD-8_V (SON, 8-Leads, Body 3x3mm, Pitch 0.5mm, Thermal Pad 1.65x2.38 mm, IPC Low Density)
pins: 1 OUT (power) "The Output Supplies Power to the Load. A minimum output capacitor of 1uF is required to prevent oscillations. Larger output capacitors will be required for applications with large transient loads to limit peak voltage (See Datasheet)", 2 OUT (power) "The Output Supplies Power to the Load. A minimum output capacitor of 1uF is required to prevent oscillations. Larger output capacitors will be required for applications with large transient loads to limit peak voltage (See Datasheet)", 3 ADJ (in) "For the Adjustable LT1964,  this is the Input to the Error Ampli?er. The ADJ pin has a bias current of 30nA that ?ows out of the pin. The ADJ pin voltage is -1.22V referenced to ground, and the output voltage range is(See Datasheet)", 4 ~{SHDN} (in) "The S\H\D\N\ Pin is used to put the LT1964 into a Low Power Shutdown State. The S\H\D\N\ pin is referenced to the GND pin for regulator control, allowing the LT1964 to  be driven by either positive or negative logic. The (See Datasheet)", 5 BYP "The BYP Pin is used to Bypass the Reference of  the LT1964 to Achieve Low Noise Performance from the  Regulator. A small capacitor from the output to this pin  will bypass the reference to lower the output voltage noise.  A (See Datasheet)", 6 GND (power) "Ground.", 7 IN (power) "Power is Supplied to the Device Through the Input Pin. A bypass capacitor is required on this pin if the device  is more than six inches away from the main input ?lter  capacitor. In general, the output impedance of (See Datasheet)", 8 IN (power) "Power is Supplied to the Device Through the Input Pin. A bypass capacitor is required on this pin if the device  is more than six inches away from the main input ?lter  capacitor. In general, the output impedance of (See Datasheet)", 9 IN (power) "IN. Connect to IN  (Pins 7, 8) at the PCB."

## LT1964IDD#TRPBF
designator U?
200 mA, Low Noise, Low Dropout Negative Micropower Regulator, -1.9 to -20 V Vin, Adjustable Vout, 8-pin SON (DD-8), -40 to 125 degC, Pb-Free, Tape and Reel; Manufacturer: Linear Technology; PartNumber: LT1964IDD#TRPBF; Discrete Pass Element: no; Dropout Voltage(V): 0.34; Iout(mA): 200; Isupply(mA): 0.03; Noise(uV): 30; Number of Outputs: 1; Output Voltage: Adj; PSRR(dB): 54; Shutdown Current(uA): 3; DatasheetVersion: Rev. B; PackageVersion: Jun-10; PackageReference: DD-8; PackageDescription: 8-Pin Plastic DFN, Body 3 x 3 mm, Pitch 0.5 mm; Supplier 1: Digi-Key; Supplier Part Number 1: LT1964IDD#TRPBF-ND; Supplier 2: Newark; Supplier Part Number 2: 02P7648; Packing: Tape and Reel; RoHS: TRUE; Vin Max(V): -1.9; Vin Min(V): -20; Mounting Technology: Surface Mount; Code_JEDEC: MO-229; ComponentLink1Description: Manufacturer URL; ComponentLink1URL: http://www.linear.com/; ComponentLink2Description: Datasheet; ComponentLink2URL: http://cds.linear.com/docs/en/datasheet/1964fb.pdf; ComponentLink3Description: Package Specification; ComponentLink3URL: http://cds.linear.com/docs/en/packaging/DFN_8_05-08-1698.pdf
footprint LT-DD-8_V (SON, 8-Leads, Body 3x3mm, Pitch 0.5mm, Thermal Pad 1.65x2.38 mm, IPC Low Density)
pins: 1 OUT (power) "The Output Supplies Power to the Load. A minimum output capacitor of 1uF is required to prevent oscillations. Larger output capacitors will be required for applications with large transient loads to limit peak voltage (See Datasheet)", 2 OUT (power) "The Output Supplies Power to the Load. A minimum output capacitor of 1uF is required to prevent oscillations. Larger output capacitors will be required for applications with large transient loads to limit peak voltage (See Datasheet)", 3 ADJ (in) "For the Adjustable LT1964,  this is the Input to the Error Ampli?er. The ADJ pin has a bias current of 30nA that ?ows out of the pin. The ADJ pin voltage is -1.22V referenced to ground, and the output voltage range is(See Datasheet)", 4 ~{SHDN} (in) "The S\H\D\N\ Pin is used to put the LT1964 into a Low Power Shutdown State. The S\H\D\N\ pin is referenced to the GND pin for regulator control, allowing the LT1964 to  be driven by either positive or negative logic. The (See Datasheet)", 5 BYP "The BYP Pin is used to Bypass the Reference of  the LT1964 to Achieve Low Noise Performance from the  Regulator. A small capacitor from the output to this pin  will bypass the reference to lower the output voltage noise.  A (See Datasheet)", 6 GND (power) "Ground.", 7 IN (power) "Power is Supplied to the Device Through the Input Pin. A bypass capacitor is required on this pin if the device  is more than six inches away from the main input ?lter  capacitor. In general, the output impedance of (See Datasheet)", 8 IN (power) "Power is Supplied to the Device Through the Input Pin. A bypass capacitor is required on this pin if the device  is more than six inches away from the main input ?lter  capacitor. In general, the output impedance of (See Datasheet)", 9 IN (power) "IN. Connect to IN  (Pins 7, 8) at the PCB."

## LT1964IS5-5
designator U?
200 mA, Low Noise, Low Dropout Negative Micropower Regulator, -1.9 to -20 V Vin, -5 V Vout, 5-pin SOT23 (S5-5), -40 to 125 degC; Manufacturer: Linear Technology; PartNumber: LT1964IS5-5; Discrete Pass Element: no; Dropout Voltage(V): 0.34; Iout(mA): 200; Isupply(mA): 0.03; Noise(uV): 30; Number of Outputs: 1; Output Voltage: -5 V; PSRR(dB): 54; Shutdown Current(uA): 3; Vout Max(V): -1.22; DatasheetVersion: Rev. B; PackageVersion: Jun-10; PackageReference: S5-5; PackageDescription: 5-Pin Plastic TSOT-23, Body 1.63 x 2.90 mm, Pitch 0.95 mm; RoHS: FALSE; Vin Max(V): -1.9; Vin Min(V): -20; Vout Min(V): -20; Mounting Technology: Surface Mount; Code_JEDEC: MO-193; ComponentLink1Description: Manufacturer URL; ComponentLink1URL: http://www.linear.com/; ComponentLink2Description: Datasheet; ComponentLink2URL: http://cds.linear.com/docs/en/datasheet/1964fb.pdf; ComponentLink3Description: Package Specification; ComponentLink3URL: http://cds.linear.com/docs/en/packaging/SOT_5_05-08-1635.pdf
footprint LT-S5-5-TSOT-23_N (SOT23, 5-Leads, Body 2.90x1.63mm, Pitch 0.95mm, IPC Medium Density)
footprint LT-S5-5-TSOT-23_L (SOT23, 5-Leads, Body 2.90x1.63mm, Pitch 0.95mm, IPC High Density)
footprint LT-S5-5-TSOT-23_M (SOT23, 5-Leads, Body 2.90x1.63mm, Pitch 0.95mm, IPC Low Density)
pins: 1 GND (power) "Ground.", 2 IN (power) "Power is Supplied to the Device Through the Input Pin. A bypass capacitor is required on this pin if the device is more than six inches away from the main input filter capacitor. In general, the output impedance of a battery (See Datasheet)", 3 BYP "The BYP Pin is used to Bypass the Reference of the LT1964 to Achieve Low Noise Performance from the Regulator. A small capacitor from the output to this pin will bypass the reference to lower the output voltage noise. A (See Datasheet)", 4 ~{SHDN} (in) "The S\H\D\N\ Pin is used to put the LT1964 into a Low Power Shutdown State. The S\H\D\N\ pin is referenced to the GND pin for regulator control, allowing the LT1964 to be driven by either positive or negative logic. The (See Datasheet)", 5 OUT (power) "The Output Supplies Power to the Load. A minimum output capacitor of 1uF is required to prevent oscillations. Larger output capacitors will be required for applications with large transient loads to limit peak voltage (See Datasheet)"

## LT1964IS5-5#PBF
designator U?
200 mA, Low Noise, Low Dropout Negative Micropower Regulator, -1.9 to -20 V Vin, -5 V Vout, 5-pin SOT23 (S5-5), -40 to 125 degC, Pb-Free; Manufacturer: Linear Technology; PartNumber: LT1964IS5-5#PBF; Discrete Pass Element: no; Dropout Voltage(V): 0.34; Iout(mA): 200; Isupply(mA): 0.03; Noise(uV): 30; Number of Outputs: 1; Output Voltage: -5 V; PSRR(dB): 54; Shutdown Current(uA): 3; Vout Max(V): -1.22; DatasheetVersion: Rev. B; PackageVersion: Jun-10; PackageReference: S5-5; PackageDescription: 5-Pin Plastic TSOT-23, Body 1.63 x 2.90 mm, Pitch 0.95 mm; Supplier 1: Farnell; Supplier Part Number 1: 2295226; Supplier 2: Newark; Supplier Part Number 2: 78T3773; RoHS: TRUE; Vin Max(V): -1.9; Vin Min(V): -20; Vout Min(V): -20; Mounting Technology: Surface Mount; Code_JEDEC: MO-193; ComponentLink1Description: Manufacturer URL; ComponentLink1URL: http://www.linear.com/; ComponentLink2Description: Datasheet; ComponentLink2URL: http://cds.linear.com/docs/en/datasheet/1964fb.pdf; ComponentLink3Description: Package Specification; ComponentLink3URL: http://cds.linear.com/docs/en/packaging/SOT_5_05-08-1635.pdf
footprint LT-S5-5-TSOT-23_N (SOT23, 5-Leads, Body 2.90x1.63mm, Pitch 0.95mm, IPC Medium Density)
footprint LT-S5-5-TSOT-23_L (SOT23, 5-Leads, Body 2.90x1.63mm, Pitch 0.95mm, IPC High Density)
footprint LT-S5-5-TSOT-23_M (SOT23, 5-Leads, Body 2.90x1.63mm, Pitch 0.95mm, IPC Low Density)
pins: 1 GND (power) "Ground.", 2 IN (power) "Power is Supplied to the Device Through the Input Pin. A bypass capacitor is required on this pin if the device is more than six inches away from the main input filter capacitor. In general, the output impedance of a battery (See Datasheet)", 3 BYP "The BYP Pin is used to Bypass the Reference of the LT1964 to Achieve Low Noise Performance from the Regulator. A small capacitor from the output to this pin will bypass the reference to lower the output voltage noise. A (See Datasheet)", 4 ~{SHDN} (in) "The S\H\D\N\ Pin is used to put the LT1964 into a Low Power Shutdown State. The S\H\D\N\ pin is referenced to the GND pin for regulator control, allowing the LT1964 to be driven by either positive or negative logic. The (See Datasheet)", 5 OUT (power) "The Output Supplies Power to the Load. A minimum output capacitor of 1uF is required to prevent oscillations. Larger output capacitors will be required for applications with large transient loads to limit peak voltage (See Datasheet)"